# EAGLE library part LS7766DH (library lsi-computer-systems)
32-BIT SINGLE- AXIS/DUAL-AXIS QUADRATURE COUNTER Source: http://www.lsicsi.com/pdfs/Data_Sheets/LS7766.pdf
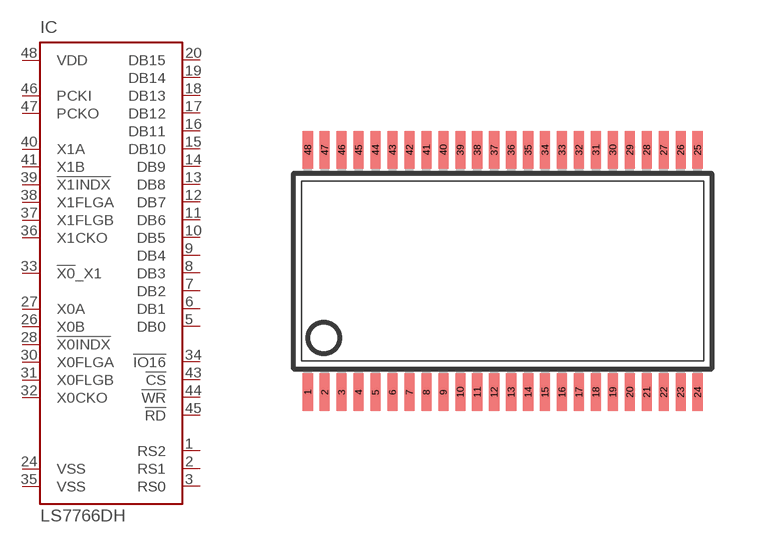
[diagram p2: symbol with the pads of TSSOP48; footprint TSSOP48]

Designator prefix IC

## LS7766DH-TS  [TSSOP48]
1  RS2  in
2  RS1  in
3  RS0  in
5  DB0  hiz
6  DB1  hiz
7  DB2  hiz
8  DB3  hiz
9  DB4  hiz
10  DB5  hiz
11  DB6  hiz
12  DB7  hiz
13  DB8  hiz
14  DB9  hiz
15  DB10  hiz
16  DB11  hiz
17  DB12  hiz
18  DB13  hiz
19  DB14  hiz
20  DB15  hiz
24  VSS  pwr
26  X0B  in
27  X0A  in
28  !X0INDX  in
30  X0FLGA  out
31  X0FLGB  out
32  X0CKO  out
33  !X0!_X1  out
34  !IO16  in
35  VSS  pwr
36  X1CKO  out
37  X1FLGB  out
38  X1FLGA  out
39  !X1INDX  in
40  X1A  in
41  X1B  in
43  !CS  in
44  !WR  in
45  !RD  in
46  PCKI  in
47  PCKO  out
48  VDD  pwr

## Footprint TSSOP48 (pad centres in mm)
Thin Shrink Small Outline Plastic 48 Source: http://www.lsicsi.com/pdfs/Drawings/TSSOP_OD.pdf
smd 0.3 x 1.1: 1 -5.75,-3.575; 2 -5.25,-3.575; 3 -4.75,-3.575; 4 -4.25,-3.575; 5 -3.75,-3.575; 6 -3.25,-3.575; 7 -2.75,-3.575; 8 -2.25,-3.575; 9 -1.75,-3.575; 10 -1.25,-3.575; 11 -0.75,-3.575; 12 -0.25,-3.575; 13 0.25,-3.575; 14 0.75,-3.575; 15 1.25,-3.575; 16 1.75,-3.575; 17 2.25,-3.575; 18 2.75,-3.575; 19 3.25,-3.575; 20 3.75,-3.575; 21 4.25,-3.575; 22 4.75,-3.575; 23 5.25,-3.575; 24 5.75,-3.575; 25 5.75,3.575; 26 5.25,3.575; 27 4.75,3.575; 28 4.25,3.575; 29 3.75,3.575; 30 3.25,3.575; 31 2.75,3.575; 32 2.25,3.575; 33 1.75,3.575; 34 1.25,3.575; 35 0.75,3.575; 36 0.25,3.575; 37 -0.25,3.575; 38 -0.75,3.575; 39 -1.25,3.575; 40 -1.75,3.575; 41 -2.25,3.575; 42 -2.75,3.575; 43 -3.25,3.575; 44 -3.75,3.575; 45 -4.25,3.575; 46 -4.75,3.575; 47 -5.25,3.575; 48 -5.75,3.575